# Altium schematic symbol library valves.SchLib: 11 symbols
Pins are listed as number, name and electrical type; pins without a type are passive.

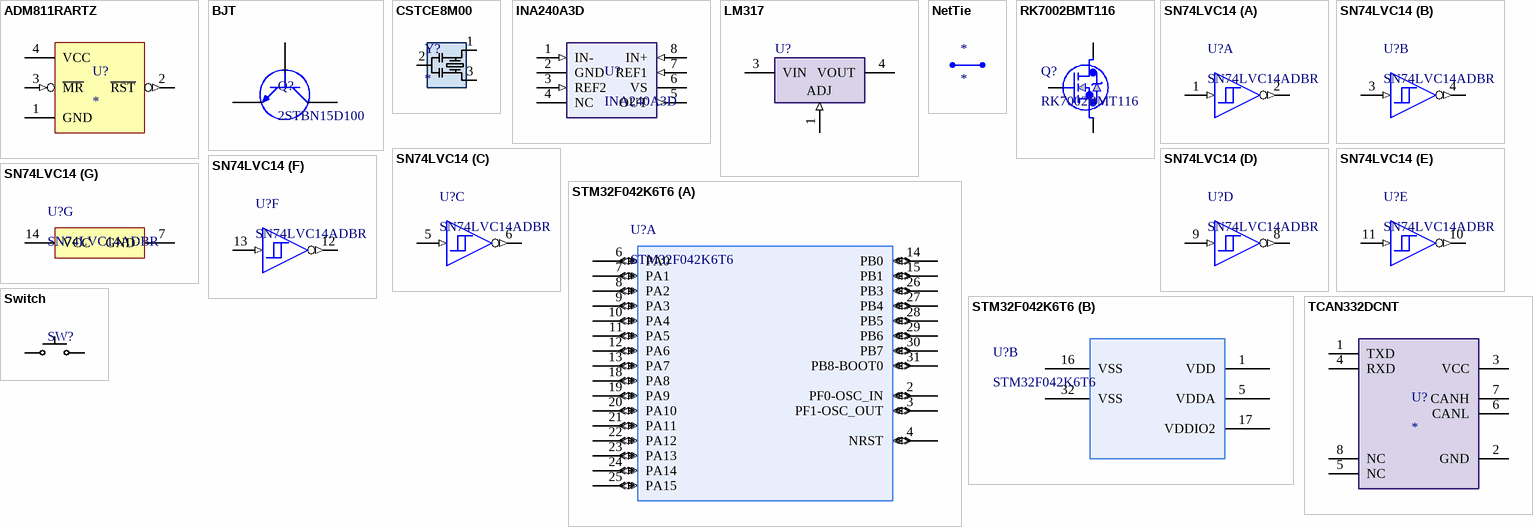
[diagram p0: symbols ADM811RARTZ to TCAN332DCNT]

## ADM811RARTZ
designator U?
Supervisory Reset IC with manual reset and single supply monitoring. Push-pull, active-low reset output.; Manufacturer: Analog Devices; Manufacturer Part Number: ADM811RARTZ-REEL7; Max Supply Voltage: 5.5V; Min Supply Voltage: 1V; Max Power Dissipation: 200mW; Max Supply Current: 10uA; Watchdog Timer: No; Max Reset Threshold Voltage: 2.68V; Min Reset Threshold Voltage: 2.58V; Number of Voltages Monitored: 1; Reset: Active Low; Reset Timeout: 140ms; Threshold Voltage: 2.63V; Operating Supply Current: 15uA; Reset Delay Time: 560ms; Supplier 1: Digi-Key; Stock 1: 2446; Pricing 1: 1=1.56000, 10=1.39800, 25=1.32680, 100=1.08970, 250=1.01868, 500=0.90022, 1000=0.71070 (USD); RoHS: Yes; Mount: Surface Mount; Package: SOT-143-4; Number of Pins: 4; Min Operating Temperature: -40°C; Max Operating Temperature: 85°C; Packaging: Tape and Reel; Nominal Supply Current: 10uA; Type: Simple Reset/Power-On Reset; Number of Monitored Inputs: 1; Overvoltage Threshold: 2.68V; Undervoltage Threshold: 2.58V; Number of Elements: 1; Power Dissipation: 200mW; Package Quantity: 3000; Length: 3.04mm; Height: 1.07mm; Width: 1.4mm; Radiation Hardening: No; Lead Free: Contains Lead; REACH SVHC: No SVHC; ComponentLink1URL: https://datasheet.ciiva.com/15105/getdatasheetpartid-116838-15105872.pdf?src-supplier=Verical; ComponentLink1Description: https://datasheet.ciiva.com/15105/getdatasheetpartid-116838-15105872.pdf?src-supplier=Verical; ComponentLink2URL: https://datasheet.ciiva.com/1969/adm811-812-1969876.pdf?src-supplier=Digi-Key; ComponentLink2Description: https://datasheet.ciiva.com/1969/adm811-812-1969876.pdf?src-supplier=Digi-Key; ComponentLink3URL: https://datasheet.ciiva.com/1969/adm811-812-1969877.pdf?src-supplier=Digi-Key; ComponentLink3Description: https://datasheet.ciiva.com/1969/adm811-812-1969877.pdf?src-supplier=Digi-Key; ComponentLink4URL: https://datasheet.ciiva.com/17221/adm811-812-17221877.pdf?src-supplier=Avnet+Europe; ComponentLink4Description: https://datasheet.ciiva.com/17221/adm811-812-17221877.pdf?src-supplier=Avnet+Europe; ComponentLink5URL: https://datasheet.ciiva.com/1969/adm811-812-1969878.pdf?src-supplier=Digi-Key; ComponentLink5Description: https://datasheet.ciiva.com/1969/adm811-812-1969878.pdf?src-supplier=Digi-Key; Supplier Part Number 1: ADM811RARTZ-REEL7CT-ND
footprint SOT-143-4 (SOT143, 4-Leads, Body 3.04x1.4mm, Pitch 1.92mm)
pins: 1 GND (power), 2 ~{RST} (out) "Reset Output (active-low, open drain)", 3 ~{MR} (in) "Manual Reset Input", 4 VCC (power)

## BJT
designator Q?, comment 2STBN15D100
2STBN15D100 BJT; DC Gain: 750; Part Number: 2STBN15D100; Supplier 1: Digi-Key; Supplier Part Number 1: 497-10113-1-ND
footprint D2PAK
pins: 1 B, 2 B, 3 B

## CSTCE8M00
designator Y?
8MHz Ceramic Resonator
footprint 8MHz Ceramic Resonator (8MHz Ceramic Resonator Murata)
pins: 1 OSC1, 2 GND, 3 OSC2

## INA240A3D
designator U?
SchLib for TI op amp for current sensing.; Supplier 1: Digi-Key; Supplier Part Number 1: 296-48839-ND
footprint INA240A3D (Footprint for TI current sense op amp)
pins: 1 IN- (in), 2 GND, 3 REF2 (in), 4 NC, 5 OUT (out), 6 VS, 7 REF1 (in), 8 IN+ (in)

## LM317
designator U?
Linear Voltage Regulator
footprint D-PAK (D-PAK, 4-Leads, Body 6.1x6.5mm, Pitch 2.28mm, Lead Span 9.7mm, IPC Medium Density)
pins: 1 ADJ (in), 3 VIN (power), 4 VOUT (power)

## NetTie
designator *  (net tie, no BOM)
footprint Rectangle_Net_Tie
footprint rect_ring_tie
pins: 1, 2

## RK7002BMT116
designator Q?
n-channel MOSEFT; Vendor: ROHM Semiconductor; Built_By: EMA_Matt; SourceLibrary: Rohm_2019-09-23; Type: DEV; Manufacturer_Part_Number: RK7002BMT116; Copyright: Copyright (C) 2018 Accelerated Designs. All rights reserved; RefDes: RefDes
footprint TRANS_RK7002BMHZG_ROM
pins: 1 2, 2 1, 3

## SN74LVC14
designator U?, comment SN74LVC14ADBR
Hex Schmitt-Trigger Inverter, DB0014A, LARGE T&R; Manufacturer: Texas Instruments; tpd @ Nom Voltage(Max)(ns): 11,7.8,7.5,6.4; Output Type: CMOS; Voltage(Nom)(V): 1.8,2.5,2.7,3.3; F @ Nom Voltage(Max)(Mhz): 100; ICC @ Nom Voltage(Max)(mA): 0.01; Input Type: CMOS,TTL; VCC(Max)(V): 3.6; Schmitt Trigger: Yes; Technology Family: LVC; VCC(Min)(V): 2; Output Drive (IOL/IOH)(Max)(mA): -24/24; Bits(#): 6; Rating: Catalog; Code_JEDEC: MO-150; PackageReference: DB0014A; Generic Part Number: SN74LVC14A; Operating Temperature Range(C): -40 to 125; DatasheetVersion: SCAS285AA
footprint SOP-14 (SOP, 14-Leads, Body 5.6x6.5mm, Pitch 0.65mm, IPC Low Density)
part A pins: 1 1A (in) "Input 1A", 2 ~{1Y} (out) "Output 1Y"
part B pins: 3 2A (in) "Input 2A", 4 ~{2Y} (out) "Output 2Y"
part C pins: 5 3A (in) "Input 3A", 6 ~{3Y} (out) "Output 3Y"
part D pins: 8 ~{4Y} (out) "Output 4Y", 9 4A (in) "Input 4A"
part E pins: 10 ~{5Y} (out) "Output 5Y", 11 5A (in) "Input 5A"
part F pins: 12 ~{6Y} (out) "Output 6Y", 13 6A (in) "Input 6A"
part G pins: 7 GND (power) "Ground Pin", 14 VCC (power) "Power Pin"

## STM32F042K6T6
designator U?
STM32 MCU; Vendor: STMicroelectronics; Built_By: EMA_UL_Team; SourceLibrary: Updates_to_database_2020-10-19; Manufacturer_Part_Number: STM32F042K6T6; Copyright: Copyright (C) 2018 Accelerated Designs. All rights reserved; RefDes: RefDes; Type: DEV
footprint LQFP-32
part A pins: 2 PF0-OSC_IN (io), 3 PF1-OSC_OUT (io), 4 NRST (io), 6 PA0 (io), 7 PA1 (io), 8 PA2 (io), 9 PA3 (io), 10 PA4 (io), 11 PA5 (io), 12 PA6 (io), 13 PA7 (io), 14 PB0 (io), 15 PB1 (io), 18 PA8 (io), 19 PA9 (io), 20 PA10 (io), 21 PA11 (io), 22 PA12 (io), 23 PA13 (io), 24 PA14 (io), 25 PA15 (io), 26 PB3 (io), 27 PB4 (io), 28 PB5 (io), 29 PB6 (io), 30 PB7 (io), 31 PB8-BOOT0 (io)
part B pins: 1 VDD (power), 5 VDDA (power), 16 VSS (power), 17 VDDIO2 (power), 32 VSS (power)

## Switch
designator SW?  (value not drawn)
Push button switch, momentary, normally open
footprint PUSHBUTTON
pins: 1, 2

## TCAN332DCNT
designator U?
IC TXRX CAN 3.3V SOT23-8
footprint SOT-23-8
pins: 1 TXD, 2 GND, 3 VCC, 4 RXD, 5 NC, 6 CANL, 7 CANH, 8 NC